# Altium schematic symbol library Connectors.SchLib: 56 symbols (part 1 of 2)
Pins are listed as number, name and electrical type; pins without a type are passive.

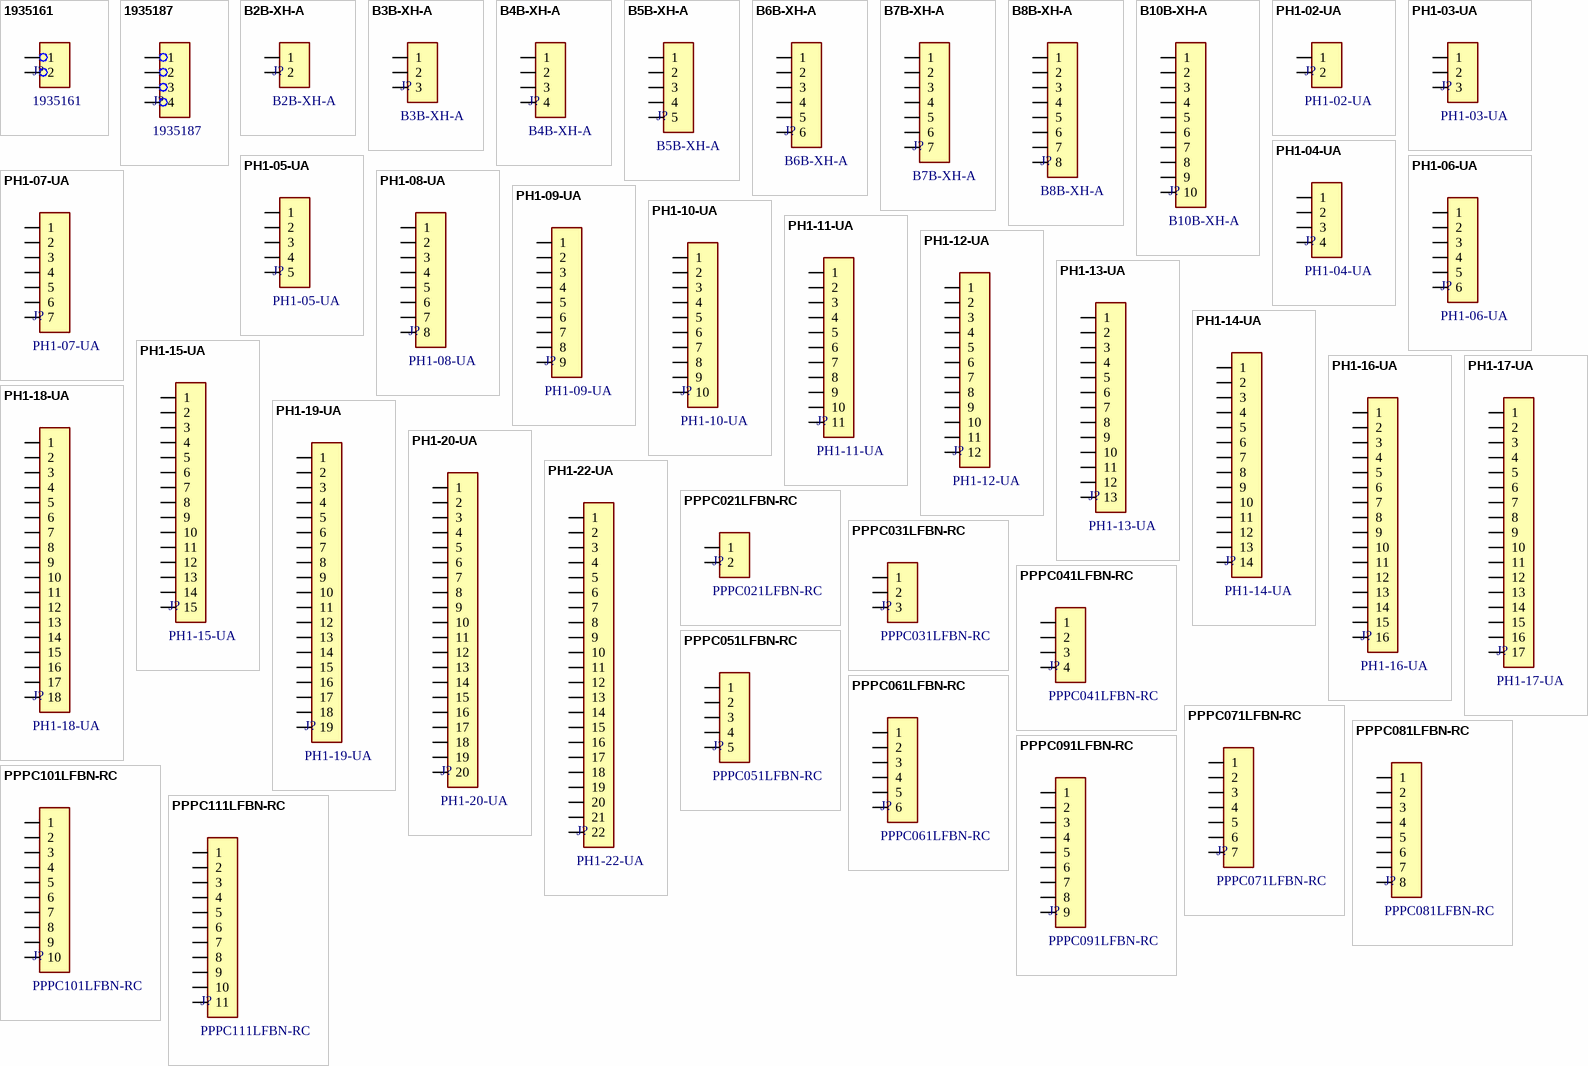
[diagram p0: symbols 1935161 to PPPC111LFBN-RC]

## 1935161
designator J?
TERM BLK 2POS SIDE ENTRY 5MM PCB; Manufacturer: Phoenix Contact; Fastening Method: SCREW; Number of Decks: 1; Number of Ways: 2; Current Rating: 17.5A; Voltage Rating: 250V; Wire Cross Section: 1.5mm2; Wire/Cable Gauge: 14AWG; Safety Approval: UL; Supplier: Digikey; Supplier Part Number: 277-1667-ND; Manufacturer Part Number: 1935161; RoHS: Yes; Category: Terminal Blocks; Stock: 69926; Pricing: 1=0.5, 10=0.476, 50=0.4554, 100=0.443, 250=0.414, 500=0.38088, 1000=0.37375 (USD); Mounting Technology: Board; Terminal and Terminal Block Type: BARRIER STRIP TERMINAL BLOCK; Number of Rows: 1; RoHS Compliant: Yes; Reach SVHC Compliant: No; ComponentLink1URL: https://datasheet.ciiva.com:443/pdfs/VipMasterIC/IC/PCON/PCON-S-A0007661889/PCON-S-A0008048682-1.pdf?src-supplier=IHS+Markit; ComponentLink1Description: https://datasheet.ciiva.com:443/pdfs/VipMasterIC/IC/PCON/PCON-S-A0007661889/PCON-S-A0008048682-1.pdf?src-supplier=IHS+Markit; ComponentLink2URL: https://datasheet.ciiva.com/16047/1935161-16047247.pdf?src-supplier=Onlinecomponents.com; ComponentLink2Description: https://datasheet.ciiva.com/16047/1935161-16047247.pdf?src-supplier=Onlinecomponents.com; ComponentLink3URL: https://datasheet.ciiva.com/15169/getdatasheetpartid-177903-15169663.pdf?src-supplier=Verical; ComponentLink3Description: https://datasheet.ciiva.com/15169/getdatasheetpartid-177903-15169663.pdf?src-supplier=Verical; ComponentLink4URL: https://datasheet.ciiva.com/824/combiconcompact5-0mmseries-824222.pdf?src-supplier=Digikey; ComponentLink4Description: https://datasheet.ciiva.com/824/combiconcompact5-0mmseries-824222.pdf?src-supplier=Digikey
footprint CON_TERM_2P_5MM_PITCH
pins: 1, 2

## 1935187
designator J?
TERM BLK 4POS SIDE ENTRY 5MM PCB; Manufacturer: Phoenix Contact; Number of Contacts: 4; Max Current Rating: 16A; Voltage Rating: 250V; Current Rating: 17.5A; Number of Levels: 1; Current: 18A; Voltage: 300V; Voltage Rating (DC): 508mV; Wire/Cable Gauge: 26AWG; Wire Gauge (Min): 12AWG; Approvals: UL,VDE,CB,EAC; Supplier: Digikey; Supplier Part Number: 277-1579-ND; Manufacturer Part Number: 1935187; RoHS: Yes; Category: Terminal Blocks; Stock: 15505; Pricing: 1=0.98, 10=0.942, 50=0.901, 100=0.8763, 250=0.819, 500=0.75348, 1000=0.73938 (USD); Mounting Technology: Through Hole; Pins: 4; Contact Material: Copper,Tin; Contact Plating: 154ConductorMaterial; Housing Material: Polyamide; Color: Green; Weight: 0.134041oz; Material: Nylon; Housing Color: Green; Insulation Material: Nylon; Termination: Screw; Orientation: Straight; Package Quantity: 250; Packaging: Bulk; Number of Positions: 4; Series: COMBICON PT; Number of Rows: 1; Max Supply Voltage: 250V; Number of Poles: 4; Number of Positions Per Level: 4; Number of Circuits: 4; Number of Ways: 4; Length: 9mm; Width: 20mm; Height: 11.3mm; Wire Gauge (Max): 26AWG; Depth: 9mm; Pitch: 5mm; Stripping Length: 5mm; Radiation Hardening: No; Lead Free: Lead Free; Flammability Rating: UL94 V-0; Reach SVHC Compliant: Unknown; RoHS Compliant: Yes; ComponentLink1URL: https://datasheet.ciiva.com/16047/1935187-16047251.pdf?src-supplier=Onlinecomponents.com; ComponentLink1Description: https://datasheet.ciiva.com/16047/1935187-16047251.pdf?src-supplier=Onlinecomponents.com; ComponentLink2URL: https://datasheet.ciiva.com/823/combiconcompact5-0mmseries-823770.pdf?src-supplier=Digikey; ComponentLink2Description: https://datasheet.ciiva.com/823/combiconcompact5-0mmseries-823770.pdf?src-supplier=Digikey
footprint CON_TERM_4P_5MM_PITCH
pins: 1, 2, 3, 4

## B2B-XH-A
designator J?
CONN HEADER VERT 2POS 2.5MM; Manufacturer: JST; Contact Resistance: 20mΩ; Current Rating: 3A; Insulation Resistance: 1GΩ; Supplier: DigiKey; Supplier Part Number: 455-B2B-XH-A-ND; Manufacturer Part Number: B2B-XH-A; RoHS: Compliant; Category: Card Edge Connectors; Stock: 116847; Pricing: 1=0.1, 10=0.073, 100=0.0618, 500=0.05514, 1000=0.05251, 5000=0.04686, 10000=0.04463 (USD); Contact Gender: Male; Contact Material: Brass; Housing Material: Nylon; Lifecycle Status: Production; Max Operating Temperature: 85°C; Min Operating Temperature: -25°C; Pins: 2; Number of Rows: 1; Orientation: Straight; Terminal Pitch: 2.5mm; ComponentLink1URL: https://datasheet.octopart.com:443/B2B-XH-A-JST-datasheet-157850277.pdf?src-supplier=IHS; ComponentLink1Description: https://datasheet.octopart.com:443/B2B-XH-A-JST-datasheet-157850277.pdf?src-supplier=IHS; ComponentLink2URL: https://datasheet.octopart.com:443/B2B-XH-A-JST-datasheet-10026044.pdf?src-supplier=TME; ComponentLink2Description: https://datasheet.octopart.com:443/B2B-XH-A-JST-datasheet-10026044.pdf?src-supplier=TME
footprint JST-B2B-XH-A
pins: 1, 2

## B3B-XH-A
designator J?
CONN HEADER VERT 3POS 2.5MM; Manufacturer: JST; Contact Resistance: 20mΩ; Current Rating: 3A; Insulation Resistance: 1GΩ; Number of Contacts: 3; Voltage Rating: 250V; Supplier: DigiKey; Supplier Part Number: 455-2248-ND; Manufacturer Part Number: B3B-XH-A; RoHS: Compliant; Category: Card Edge Connectors; Stock: 39227; Pricing: 1=0.11, 10=0.092, 100=0.0777, 500=0.06938, 1000=0.06605, 5000=0.05895, 10000=0.05614 (USD); Contact Gender: Male; Contact Material: Tin; Height: 7mm; Housing Material: Nylon; Lifecycle Status: Production; Max Operating Temperature: 85°C; Min Operating Temperature: -25°C; Pins: 3; Number of Rows: 1; Orientation: Straight; Terminal Pitch: 2.5mm; ComponentLink1URL: https://datasheet.octopart.com:443/B3B-XH-A-JST-datasheet-12510042.pdf?src-supplier=Upverter; ComponentLink1Description: https://datasheet.octopart.com:443/B3B-XH-A-JST-datasheet-12510042.pdf?src-supplier=Upverter; ComponentLink2URL: https://datasheet.octopart.com:443/B3B-XH-A-JST-datasheet-157850277.pdf?src-supplier=IHS; ComponentLink2Description: https://datasheet.octopart.com:443/B3B-XH-A-JST-datasheet-157850277.pdf?src-supplier=IHS; ComponentLink3URL: https://datasheet.octopart.com:443/B3B-XH-A-JST-datasheet-10026044.pdf?src-supplier=TME; ComponentLink3Description: https://datasheet.octopart.com:443/B3B-XH-A-JST-datasheet-10026044.pdf?src-supplier=TME
footprint JST-B3B-XH-A
pins: 1, 2, 3

## B4B-XH-A
designator J?
CONN HEADER VERT 4POS 2.5MM; Manufacturer: JST; Contact Resistance: 20mΩ; Current Rating: 3A; Insulation Resistance: 1GΩ; Supplier: DigiKey; Supplier Part Number: 455-B4B-XH-A-ND; Manufacturer Part Number: B4B-XH-A; RoHS: Compliant; Category: Card Edge Connectors; Stock: 50423; Pricing: 1=0.14, 10=0.12, 100=0.1021, 500=0.09114, 1000=0.08679, 5000=0.07746, 10000=0.07376 (USD); Contact Gender: Male; Contact Material: Bronze, Tin; Housing Material: Nylon; Lifecycle Status: Production; Max Operating Temperature: 85°C; Min Operating Temperature: -25°C; Pins: 4; Number of Rows: 1; Orientation: Straight; Terminal Pitch: 2.5mm; ComponentLink1URL: https://datasheet.octopart.com:443/B4B-XH-A-JST-datasheet-157850277.pdf?src-supplier=IHS; ComponentLink1Description: https://datasheet.octopart.com:443/B4B-XH-A-JST-datasheet-157850277.pdf?src-supplier=IHS; ComponentLink2URL: https://datasheet.octopart.com:443/B4B-XH-A-JST-datasheet-10026044.pdf?src-supplier=TME; ComponentLink2Description: https://datasheet.octopart.com:443/B4B-XH-A-JST-datasheet-10026044.pdf?src-supplier=TME
footprint JST-B4B-XH-A
pins: 1, 2, 3, 4

## B5B-XH-A
designator J?
CONN HEADER VERT 5POS 2.5MM; Manufacturer: JST; Contact Resistance: 20mΩ; Current Rating: 3A; Insulation Resistance: 1GΩ; Supplier: DigiKey; Supplier Part Number: 455-B5B-XH-A-ND; Manufacturer Part Number: B5B-XH-A; RoHS: Compliant; Category: Card Edge Connectors; Stock: 130794; Pricing: 1=0.17, 10=0.144, 100=0.1225, 500=0.10932, 1000=0.10409, 5000=0.0929, 10000=0.08847 (USD); Contact Gender: Male; Contact Material: Bronze, Tin; Housing Material: Nylon; Lifecycle Status: Production; Max Operating Temperature: 85°C; Min Operating Temperature: -25°C; Pins: 5; Number of Rows: 1; Orientation: Straight; Terminal Pitch: 2.5mm; ComponentLink1URL: https://datasheet.octopart.com:443/B5B-XH-A-JST-datasheet-157850277.pdf?src-supplier=IHS; ComponentLink1Description: https://datasheet.octopart.com:443/B5B-XH-A-JST-datasheet-157850277.pdf?src-supplier=IHS; ComponentLink2URL: https://datasheet.octopart.com:443/B5B-XH-A-JST-datasheet-10026044.pdf?src-supplier=TME; ComponentLink2Description: https://datasheet.octopart.com:443/B5B-XH-A-JST-datasheet-10026044.pdf?src-supplier=TME
footprint JST-B5B-XH-A
pins: 1, 2, 3, 4, 5

## B6B-XH-A
designator J?
CONN HEADER VERT 6POS 2.5MM; Manufacturer: JST; Connector Type: Male Pin; Contact Resistance: 20mΩ; Current Rating: 3A; Insulation Resistance: 1GΩ; Number of Contacts: 6; Pitch: 2.4892mm; Voltage Rating: 250V; Supplier: DigiKey; Supplier Part Number: 455-B6B-XH-A-ND; Manufacturer Part Number: B6B-XH-A; RoHS: Compliant; Category: Headers and Wire Housings; Stock: 26613; Pricing: 1=0.2, 10=0.166, 100=0.141, 500=0.12586, 1000=0.11985, 5000=0.10697, 10000=0.10187 (USD); Color: Natural; Contact Gender: Male; Contact Material: Copper, Tin; Contact Plating: Lead, Tin; Fastening Type: Detent; Height: 7mm; Housing Color: Natural; Housing Material: Nylon; Lead Free: Contains Lead; Lifecycle Status: Production; Max Operating Temperature: 85°C; Manufacturer Package Identifier: B6B-XH-A; Min Operating Temperature: -25°C; Mounting Technology: Through Hole; Pins: 6; Number of Positions: 6; Number of Rows: 1; Orientation: Straight; Packaging: Bulk; Terminal Pitch: 2.5mm; Termination: Press-Fit; ComponentLink1URL: https://datasheet.octopart.com:443/B6B-XH-A-JST-datasheet-13551090.pdf?src-supplier=Upverter; ComponentLink1Description: https://datasheet.octopart.com:443/B6B-XH-A-JST-datasheet-13551090.pdf?src-supplier=Upverter; ComponentLink2URL: https://datasheet.octopart.com:443/B6B-XH-A-JST-datasheet-12516791.pdf?src-supplier=Upverter; ComponentLink2Description: https://datasheet.octopart.com:443/B6B-XH-A-JST-datasheet-12516791.pdf?src-supplier=Upverter; ComponentLink3URL: https://datasheet.octopart.com:443/B6B-XH-A-JST-datasheet-157850277.pdf?src-supplier=IHS; ComponentLink3Description: https://datasheet.octopart.com:443/B6B-XH-A-JST-datasheet-157850277.pdf?src-supplier=IHS; ComponentLink4URL: https://datasheet.octopart.com:443/B6B-XH-A-JST-datasheet-140264791.pdf?src-supplier=LKR; ComponentLink4Description: https://datasheet.octopart.com:443/B6B-XH-A-JST-datasheet-140264791.pdf?src-supplier=LKR; ComponentLink5URL: https://datasheet.octopart.com:443/B6B-XH-A-JST-datasheet-10026044.pdf?src-supplier=TME; ComponentLink5Description: https://datasheet.octopart.com:443/B6B-XH-A-JST-datasheet-10026044.pdf?src-supplier=TME
footprint JST-B6B-XH-A
pins: 1, 2, 3, 4, 5, 6

## B7B-XH-A
designator J?
CONN HEADER VERT 7POS 2.5MM; Manufacturer: JST; Contact Resistance: 20mΩ; Current Rating: 3A; Insulation Resistance: 1GΩ; Supplier: DigiKey; Supplier Part Number: 455-B7B-XH-A-ND; Manufacturer Part Number: B7B-XH-A; RoHS: Compliant; Category: Card Edge Connectors; Stock: 129225; Pricing: 1=0.23, 10=0.195, 100=0.1657, 500=0.14788, 1000=0.14081, 5000=0.12568, 10000=0.11968 (USD); Contact Gender: Male; Contact Material: Bronze, Tin; Housing Material: Nylon; Lead Free: Contains Lead; Lifecycle Status: Production; Max Operating Temperature: 85°C; Min Operating Temperature: -25°C; Pins: 7; Number of Rows: 1; Orientation: Straight; Terminal Pitch: 2.5mm; ComponentLink1URL: https://datasheet.octopart.com:443/B7B-XH-A-JST-datasheet-157850277.pdf?src-supplier=IHS; ComponentLink1Description: https://datasheet.octopart.com:443/B7B-XH-A-JST-datasheet-157850277.pdf?src-supplier=IHS; ComponentLink2URL: https://datasheet.octopart.com:443/B7B-XH-A-JST-datasheet-10026044.pdf?src-supplier=TME; ComponentLink2Description: https://datasheet.octopart.com:443/B7B-XH-A-JST-datasheet-10026044.pdf?src-supplier=TME
footprint JST-B7B-XH-A
pins: 1, 2, 3, 4, 5, 6, 7

## B8B-XH-A
designator J?
CONN HEADER VERT 8POS 2.5MM; Manufacturer: JST; Contact Resistance: 20mΩ; Current Rating: 3A; Insulation Resistance: 1GΩ; Supplier: DigiKey; Supplier Part Number: 455-B8B-XH-A-ND; Manufacturer Part Number: B8B-XH-A; RoHS: Compliant; Category: Card Edge Connectors; Stock: 5417; Pricing: 1=0.25, 10=0.214, 250=0.1704, 500=0.16226, 1000=0.1545, 5000=0.1379, 10000=0.13132 (USD); Contact Gender: Male; Contact Material: Bronze, Tin; Housing Material: Nylon; Lifecycle Status: Production; Max Operating Temperature: 85°C; Min Operating Temperature: -25°C; Pins: 8; Number of Rows: 1; Orientation: Straight; Terminal Pitch: 2.5mm; ComponentLink1URL: https://datasheet.octopart.com:443/B8B-XH-A-JST-datasheet-157850277.pdf?src-supplier=IHS; ComponentLink1Description: https://datasheet.octopart.com:443/B8B-XH-A-JST-datasheet-157850277.pdf?src-supplier=IHS; ComponentLink2URL: https://datasheet.octopart.com:443/B8B-XH-A-JST-datasheet-10026044.pdf?src-supplier=TME; ComponentLink2Description: https://datasheet.octopart.com:443/B8B-XH-A-JST-datasheet-10026044.pdf?src-supplier=TME
footprint JST-B8B-XH-A
pins: 1, 2, 3, 4, 5, 6, 7, 8

## B10B-XH-A
designator J?
CONN HEADER VERT 10POS 2.5MM; Manufacturer: JST; Contact Resistance: 20mΩ; Current Rating: 3A; Insulation Resistance: 1GΩ; Supplier: DigiKey; Supplier Part Number: 455-B10B-XH-A-ND; Manufacturer Part Number: B10B-XH-A; RoHS: Compliant; Category: Card Edge Connectors; Stock: 6118; Pricing: 1=0.32, 10=0.273, 250=0.2172, 500=0.2068, 1000=0.19692, 5000=0.17577, 10000=0.16738 (USD); Contact Gender: Male; Contact Material: Bronze, Tin; Housing Material: Nylon; Lifecycle Status: Production; Max Operating Temperature: 85°C; Min Operating Temperature: -25°C; Pins: 10; Number of Rows: 1; Orientation: Straight; Terminal Pitch: 2.5mm; ComponentLink1URL: https://datasheet.octopart.com:443/B10B-XH-A-JST-datasheet-157850277.pdf?src-supplier=IHS; ComponentLink1Description: https://datasheet.octopart.com:443/B10B-XH-A-JST-datasheet-157850277.pdf?src-supplier=IHS
footprint JST-B10B-XH-A
pins: 1, 2, 3, 4, 5, 6, 7, 8, 9, 10

## PH1-02-UA
designator J?
CONN HEADER VERT 2POS 2.54MM; Manufacturer: Adam Equipment; Supplier: Digikey; Supplier Part Number: 2057-PH1-02-UA-ND; Manufacturer Part Number: PH1-02-UA; RoHS: Yes; Category: Connectors; Stock: 110214; Pricing: 1=0.1, 10=0.032, 100=0.0244, 500=0.02018, 1000=0.01863, 5000=0.01554, 10000=0.0144 (USD); ComponentLink1URL: https://datasheet.ciiva.com/16392/ph1-xx-ua-16392701.pdf?src-supplier=Future+Electronics; ComponentLink1Description: https://datasheet.ciiva.com/16392/ph1-xx-ua-16392701.pdf?src-supplier=Future+Electronics; ComponentLink2URL: https://datasheet.ciiva.com/5160/page-292-295-12946-5160830.pdf?src-supplier=Mouser; ComponentLink2Description: https://datasheet.ciiva.com/5160/page-292-295-12946-5160830.pdf?src-supplier=Mouser
footprint CON_HDR_MAL_VERT_2P_2P54_PITCH
pins: 1, 2

## PH1-03-UA
designator J?
CONN HEADER VERT 3POS 2.54MM; Manufacturer: Adam Equipment; Supplier: Digikey; Supplier Part Number: 2057-PH1-03-UA-ND; Manufacturer Part Number: PH1-03-UA; RoHS: Yes; Category: Headers and Wire Housings; Stock: 33737; Pricing: 1=0.1, 10=0.037, 100=0.0311, 500=0.02772, 1000=0.0264, 5000=0.02356, 10000=0.02243 (USD); ComponentLink1URL: https://datasheet.ciiva.com/16396/catpg240-254-16396026.pdf?src-supplier=Future+Electronics; ComponentLink1Description: https://datasheet.ciiva.com/16396/catpg240-254-16396026.pdf?src-supplier=Future+Electronics
footprint CON_HDR_MAL_VERT_3P_2P54_PITCH
pins: 1, 2, 3

## PH1-04-UA
designator J?
CONN HEADER VERT 4POS 2.54MM; Manufacturer: Adam Tech; Contact Resistance: 20mΩ; Current Rating: 3A; Insulation Resistance: 5GΩ; Number of Positions: 4; Supplier: DigiKey; Supplier Part Number: 2057-PH1-04-UA-ND; Manufacturer Part Number: PH1-04-UA; RoHS: Compliant; Category: Card Edge Connectors; Stock: 26184; Pricing: 1=0.1, 10=0.05, 100=0.0424, 500=0.03784, 1000=0.03602, 5000=0.03215, 10000=0.03061 (USD); Contact Gender: Male; Contact Material: Brass; Lead Free: Lead Free; Lifecycle Status: Production; Pins: 4; Number of Rows: 1; Pitch: 2.54mm; REACH SVHC: Yes; Terminal Pitch: 2.54mm; Termination: Through Hole; ComponentLink1URL: https://datasheet.octopart.com:443/PH1-04-UA-Adam-Tech-datasheet-21182886.pdf?src-supplier=IHS; ComponentLink1Description: https://datasheet.octopart.com:443/PH1-04-UA-Adam-Tech-datasheet-21182886.pdf?src-supplier=IHS; ComponentLink2URL: https://datasheet.octopart.com:443/PH1-04-UA-Adam-Tech-datasheet-12339966.pdf?src-supplier=Future+Electronics; ComponentLink2Description: https://datasheet.octopart.com:443/PH1-04-UA-Adam-Tech-datasheet-12339966.pdf?src-supplier=Future+Electronics; ComponentLink3URL: https://datasheet.octopart.com:443/PH1-04-UA-Adam-Tech-datasheet-502038.pdf?src-supplier=Future+Electronics; ComponentLink3Description: https://datasheet.octopart.com:443/PH1-04-UA-Adam-Tech-datasheet-502038.pdf?src-supplier=Future+Electronics; ComponentLink4URL: https://datasheet.octopart.com:443/PH1-04-UA-Adam-Tech-datasheet-189096092.pdf?src-supplier=Master+Electronics; ComponentLink4Description: https://datasheet.octopart.com:443/PH1-04-UA-Adam-Tech-datasheet-189096092.pdf?src-supplier=Master+Electronics; ComponentLink5URL: http://sigma.octopart.com:80/reach_statement/Adam-Tech-company-23.pdf?src-supplier=Compliance+Statements; ComponentLink5Description: http://sigma.octopart.com:80/reach_statement/Adam-Tech-company-23.pdf?src-supplier=Compliance+Statements; ComponentLink6URL: http://sigma.octopart.com:80/rohs_statement/Adam-Tech-company-22.pdf?src-supplier=Compliance+Statements; ComponentLink6Description: http://sigma.octopart.com:80/rohs_statement/Adam-Tech-company-22.pdf?src-supplier=Compliance+Statements
footprint CON_HDR_MAL_VERT_4P_2P54_PITCH
pins: 1, 2, 3, 4

## PH1-05-UA
designator J?
CONN HEADER VERT 5POS 2.54MM; Manufacturer: Adam Tech; Contact Resistance: 20mΩ; Current Rating: 3A; Insulation Resistance: 5GΩ; Number of Positions: 5; Supplier: DigiKey; Supplier Part Number: 2057-PH1-05-UA-ND; Manufacturer Part Number: PH1-05-UA; RoHS: Compliant; Category: Card Edge Connectors; Stock: 16358; Pricing: 1=0.1, 10=0.071, 100=0.0603, 500=0.05382, 1000=0.05125, 5000=0.04574, 10000=0.04355 (USD); Contact Gender: Male; Contact Material: Brass; Lead Free: Lead Free; Lifecycle Status: Production; Mounting Technology: Through Hole; Pins: 5; Number of Rows: 1; Pitch: 2.54mm; REACH SVHC: Yes; Schedule B: 8536694040, 8536694040|8536694040|8536694040|8536694040|8536694040; Terminal Pitch: 2.54mm; ComponentLink1URL: https://datasheet.octopart.com:443/PH1-05-UA-Adam-Tech-datasheet-21182886.pdf?src-supplier=IHS; ComponentLink1Description: https://datasheet.octopart.com:443/PH1-05-UA-Adam-Tech-datasheet-21182886.pdf?src-supplier=IHS; ComponentLink2URL: https://datasheet.octopart.com:443/PH1-05-UA-Adam-Tech-datasheet-500427.pdf?src-supplier=Future+Electronics; ComponentLink2Description: https://datasheet.octopart.com:443/PH1-05-UA-Adam-Tech-datasheet-500427.pdf?src-supplier=Future+Electronics; ComponentLink3URL: https://datasheet.octopart.com:443/PH1-05-UA-Adam-Tech-datasheet-189096092.pdf?src-supplier=Master+Electronics; ComponentLink3Description: https://datasheet.octopart.com:443/PH1-05-UA-Adam-Tech-datasheet-189096092.pdf?src-supplier=Master+Electronics; ComponentLink4URL: http://sigma.octopart.com:80/rohs_statement/Adam-Tech-company-22.pdf?src-supplier=Compliance+Statements; ComponentLink4Description: http://sigma.octopart.com:80/rohs_statement/Adam-Tech-company-22.pdf?src-supplier=Compliance+Statements; ComponentLink5URL: http://sigma.octopart.com:80/reach_statement/Adam-Tech-company-23.pdf?src-supplier=Compliance+Statements; ComponentLink5Description: http://sigma.octopart.com:80/reach_statement/Adam-Tech-company-23.pdf?src-supplier=Compliance+Statements
footprint CON_HDR_MAL_VERT_5P_2P54_PITCH
pins: 1, 2, 3, 4, 5

## PH1-06-UA
designator J?
CONN HEADER VERT 6POS 2.54MM; Manufacturer: Adam Tech; Contact Resistance: 20mΩ; Current Rating: 3A; Insulation Resistance: 5GΩ; Number of Contacts: 6; Supplier: DigiKey; Supplier Part Number: 2057-PH1-06-UA-ND; Manufacturer Part Number: PH1-06-UA; RoHS: Compliant; Category: Card Edge Connectors; Stock: 7020; Pricing: 1=0.1, 10=0.071, 100=0.0603, 500=0.05382, 1000=0.05125, 5000=0.04574, 10000=0.04355 (USD); Contact Gender: Male; Contact Material: Brass; Contact Plating: Gold; Lead Free: Lead Free; Lifecycle Status: Production; Mounting Technology: Through Hole; Pins: 6; Number of Positions: 6; Number of Rows: 1; Pitch: 2.54mm; REACH SVHC: Yes; Terminal Pitch: 2.54mm; ComponentLink1URL: https://datasheet.octopart.com:443/PH1-06-UA-Adam-Tech-datasheet-21182886.pdf?src-supplier=IHS; ComponentLink1Description: https://datasheet.octopart.com:443/PH1-06-UA-Adam-Tech-datasheet-21182886.pdf?src-supplier=IHS; ComponentLink2URL: https://datasheet.octopart.com:443/PH1-06-UA-Adam-Tech-datasheet-12510360.pdf?src-supplier=Future+Electronics; ComponentLink2Description: https://datasheet.octopart.com:443/PH1-06-UA-Adam-Tech-datasheet-12510360.pdf?src-supplier=Future+Electronics; ComponentLink3URL: https://datasheet.octopart.com:443/PH1-06-UA-Adam-Tech-datasheet-502038.pdf?src-supplier=Future+Electronics; ComponentLink3Description: https://datasheet.octopart.com:443/PH1-06-UA-Adam-Tech-datasheet-502038.pdf?src-supplier=Future+Electronics; ComponentLink4URL: https://datasheet.octopart.com:443/PH1-06-UA-Adam-Tech-datasheet-189096092.pdf?src-supplier=Master+Electronics; ComponentLink4Description: https://datasheet.octopart.com:443/PH1-06-UA-Adam-Tech-datasheet-189096092.pdf?src-supplier=Master+Electronics; ComponentLink5URL: http://sigma.octopart.com:80/reach_statement/Adam-Tech-company-23.pdf?src-supplier=Compliance+Statements; ComponentLink5Description: http://sigma.octopart.com:80/reach_statement/Adam-Tech-company-23.pdf?src-supplier=Compliance+Statements; ComponentLink6URL: http://sigma.octopart.com:80/rohs_statement/Adam-Tech-company-22.pdf?src-supplier=Compliance+Statements; ComponentLink6Description: http://sigma.octopart.com:80/rohs_statement/Adam-Tech-company-22.pdf?src-supplier=Compliance+Statements
footprint CON_HDR_MAL_VERT_6P_2P54_PITCH
pins: 1, 2, 3, 4, 5, 6

## PH1-07-UA
designator J?
CONN HEADER VERT 7POS 2.54MM; Manufacturer: Adam Tech; Contact Resistance: 20mΩ; Current Rating: 3A; Insulation Resistance: 5GΩ; Number of Contacts: 7; Supplier: DigiKey; Supplier Part Number: 2057-PH1-07-UA-ND; Manufacturer Part Number: PH1-07-UA; RoHS: Compliant; Category: Card Edge Connectors; Stock: 22626; Pricing: 1=0.1, 10=0.085, 100=0.0719, 500=0.06416, 1000=0.0611, 5000=0.05453, 10000=0.05192 (USD); Contact Gender: Male; Contact Material: Brass; Contact Plating: Gold; Lead Free: Lead Free; Lifecycle Status: Production; Pins: 7; Number of Rows: 1; REACH SVHC: Yes; Schedule B: 8536694040; Terminal Pitch: 2.54mm; ComponentLink1URL: https://datasheet.octopart.com:443/PH1-07-UA-Adam-Tech-datasheet-21182886.pdf?src-supplier=IHS; ComponentLink1Description: https://datasheet.octopart.com:443/PH1-07-UA-Adam-Tech-datasheet-21182886.pdf?src-supplier=IHS; ComponentLink2URL: https://datasheet.octopart.com:443/PH1-07-UA-Adam-Tech-datasheet-502038.pdf?src-supplier=Future+Electronics; ComponentLink2Description: https://datasheet.octopart.com:443/PH1-07-UA-Adam-Tech-datasheet-502038.pdf?src-supplier=Future+Electronics; ComponentLink3URL: https://datasheet.octopart.com:443/PH1-07-UA-Adam-Tech-datasheet-189096092.pdf?src-supplier=Master+Electronics; ComponentLink3Description: https://datasheet.octopart.com:443/PH1-07-UA-Adam-Tech-datasheet-189096092.pdf?src-supplier=Master+Electronics; ComponentLink4URL: http://sigma.octopart.com:80/reach_statement/Adam-Tech-company-23.pdf?src-supplier=Compliance+Statements; ComponentLink4Description: http://sigma.octopart.com:80/reach_statement/Adam-Tech-company-23.pdf?src-supplier=Compliance+Statements; ComponentLink5URL: http://sigma.octopart.com:80/rohs_statement/Adam-Tech-company-22.pdf?src-supplier=Compliance+Statements; ComponentLink5Description: http://sigma.octopart.com:80/rohs_statement/Adam-Tech-company-22.pdf?src-supplier=Compliance+Statements
footprint CON_HDR_MAL_VERT_7P_2P54_PITCH
pins: 1, 2, 3, 4, 5, 6, 7

## PH1-08-UA
designator J?
CONN HEADER VERT 8POS 2.54MM; Manufacturer: Adam Tech; Contact Resistance: 20mΩ; Current Rating: 3A; Insulation Resistance: 5GΩ; Supplier: DigiKey; Supplier Part Number: 2057-PH1-08-UA-ND; Manufacturer Part Number: PH1-08-UA; RoHS: Compliant; Category: Card Edge Connectors; Stock: 3045; Pricing: 1=0.11, 10=0.097, 100=0.0823, 500=0.0734, 1000=0.06989, 5000=0.06237, 10000=0.05939 (USD); Contact Gender: Male; Contact Material: Brass; Lifecycle Status: Production; Pins: 8; Number of Rows: 1; REACH SVHC: Yes; Schedule B: 8536694040, 8536694040|8536694040|8536694040|8536694040|8536694040; Terminal Pitch: 2.54mm; ComponentLink1URL: https://datasheet.octopart.com:443/PH1-08-UA-Adam-Tech-datasheet-21182886.pdf?src-supplier=IHS; ComponentLink1Description: https://datasheet.octopart.com:443/PH1-08-UA-Adam-Tech-datasheet-21182886.pdf?src-supplier=IHS; ComponentLink2URL: https://datasheet.octopart.com:443/PH1-08-UA-Adam-Tech-datasheet-189096092.pdf?src-supplier=Master+Electronics; ComponentLink2Description: https://datasheet.octopart.com:443/PH1-08-UA-Adam-Tech-datasheet-189096092.pdf?src-supplier=Master+Electronics; ComponentLink3URL: http://sigma.octopart.com:80/reach_statement/Adam-Tech-company-23.pdf?src-supplier=Compliance+Statements; ComponentLink3Description: http://sigma.octopart.com:80/reach_statement/Adam-Tech-company-23.pdf?src-supplier=Compliance+Statements; ComponentLink4URL: http://sigma.octopart.com:80/rohs_statement/Adam-Tech-company-22.pdf?src-supplier=Compliance+Statements; ComponentLink4Description: http://sigma.octopart.com:80/rohs_statement/Adam-Tech-company-22.pdf?src-supplier=Compliance+Statements
footprint CON_HDR_MAL_VERT_8P_2P54_PITCH
pins: 1, 2, 3, 4, 5, 6, 7, 8

## PH1-09-UA
designator J?
CONN HEADER VERT 9POS 2.54MM; Manufacturer: Adam Tech; Contact Resistance: 20mΩ; Current Rating: 3A; Insulation Resistance: 5GΩ; Supplier: DigiKey; Supplier Part Number: 2057-PH1-09-UA-ND; Manufacturer Part Number: PH1-09-UA; RoHS: Compliant; Category: Card Edge Connectors; Stock: 11695; Pricing: 1=0.17, 10=0.144, 100=0.1221, 500=0.109, 1000=0.10379, 5000=0.09264, 10000=0.08821 (USD); Contact Gender: Male; Contact Material: Brass; Lifecycle Status: Production; Pins: 9; Number of Rows: 1; REACH SVHC: Yes; Schedule B: 8536694040, 8536694040|8536694040|8536694040|8536694040|8536694040; Terminal Pitch: 2.54mm; ComponentLink1URL: https://datasheet.octopart.com:443/PH1-09-UA-Adam-Tech-datasheet-21182886.pdf?src-supplier=IHS; ComponentLink1Description: https://datasheet.octopart.com:443/PH1-09-UA-Adam-Tech-datasheet-21182886.pdf?src-supplier=IHS; ComponentLink2URL: https://datasheet.octopart.com:443/PH1-09-UA-Adam-Tech-datasheet-189096092.pdf?src-supplier=Master+Electronics; ComponentLink2Description: https://datasheet.octopart.com:443/PH1-09-UA-Adam-Tech-datasheet-189096092.pdf?src-supplier=Master+Electronics; ComponentLink3URL: http://sigma.octopart.com:80/reach_statement/Adam-Tech-company-23.pdf?src-supplier=Compliance+Statements; ComponentLink3Description: http://sigma.octopart.com:80/reach_statement/Adam-Tech-company-23.pdf?src-supplier=Compliance+Statements; ComponentLink4URL: http://sigma.octopart.com:80/rohs_statement/Adam-Tech-company-22.pdf?src-supplier=Compliance+Statements; ComponentLink4Description: http://sigma.octopart.com:80/rohs_statement/Adam-Tech-company-22.pdf?src-supplier=Compliance+Statements
footprint CON_HDR_MAL_VERT_9P_2P54_PITCH
pins: 1, 2, 3, 4, 5, 6, 7, 8, 9

## PH1-10-UA
designator J?
CONN HEADER VERT 10POS 2.54MM; Manufacturer: Adam Equipment; Supplier: Digikey; Supplier Part Number: 2057-PH1-10-UA-ND; Manufacturer Part Number: PH1-10-UA; RoHS: Yes; Category: Connectors; Stock: 12245; Pricing: 1=0.13, 10=0.114, 100=0.0969, 500=0.08648, 1000=0.08235, 5000=0.07349, 10000=0.06999 (USD); ComponentLink1URL: https://datasheet.ciiva.com/13676/page-292-295-13676646.pdf?src-supplier=Mouser; ComponentLink1Description: https://datasheet.ciiva.com/13676/page-292-295-13676646.pdf?src-supplier=Mouser
footprint CON_HDR_MAL_VERT_10P_2P54_PITCH
pins: 1, 2, 3, 4, 5, 6, 7, 8, 9, 10

## PH1-11-UA
designator J?
CONN HEADER VERT 11POS 2.54MM; Manufacturer: Adam Tech; Contact Resistance: 20mΩ; Current Rating: 3A; Insulation Resistance: 5GΩ; Supplier: DigiKey; Supplier Part Number: 2057-PH1-11-UA-ND; Manufacturer Part Number: PH1-11-UA; RoHS: Compliant; Category: Card Edge Connectors; Stock: 2051; Pricing: 1=0.14, 10=0.122, 100=0.1032, 500=0.09212, 1000=0.08771, 5000=0.07828, 10000=0.07454 (USD); Contact Gender: Male; Contact Material: Brass; Lifecycle Status: Production; Pins: 11; Number of Rows: 1; REACH SVHC: Yes; Schedule B: 8536694040; Terminal Pitch: 2.54mm; ComponentLink1URL: https://datasheet.octopart.com:443/PH1-11-UA-Adam-Tech-datasheet-21182886.pdf?src-supplier=IHS; ComponentLink1Description: https://datasheet.octopart.com:443/PH1-11-UA-Adam-Tech-datasheet-21182886.pdf?src-supplier=IHS; ComponentLink2URL: https://datasheet.octopart.com:443/PH1-11-UA-Adam-Tech-datasheet-189096092.pdf?src-supplier=Master+Electronics; ComponentLink2Description: https://datasheet.octopart.com:443/PH1-11-UA-Adam-Tech-datasheet-189096092.pdf?src-supplier=Master+Electronics; ComponentLink3URL: http://sigma.octopart.com:80/rohs_statement/Adam-Tech-company-22.pdf?src-supplier=Compliance+Statements; ComponentLink3Description: http://sigma.octopart.com:80/rohs_statement/Adam-Tech-company-22.pdf?src-supplier=Compliance+Statements; ComponentLink4URL: http://sigma.octopart.com:80/reach_statement/Adam-Tech-company-23.pdf?src-supplier=Compliance+Statements; ComponentLink4Description: http://sigma.octopart.com:80/reach_statement/Adam-Tech-company-23.pdf?src-supplier=Compliance+Statements
footprint CON_HDR_MAL_VERT_11P_2P54_PITCH
pins: 1, 2, 3, 4, 5, 6, 7, 8, 9, 10, 11

## PH1-12-UA
designator J?
CONN HEADER VERT 12POS 2.54MM; Manufacturer: Adam Tech; Contact Resistance: 20mΩ; Current Rating: 3A; Insulation Resistance: 5GΩ; Supplier: DigiKey; Supplier Part Number: 2057-PH1-12-UA-ND; Manufacturer Part Number: PH1-12-UA; RoHS: Compliant; Category: Card Edge Connectors; Stock: 4637; Pricing: 1=0.16, 10=0.134, 100=0.1137, 500=0.10142, 1000=0.09658, 5000=0.0862, 10000=0.08208 (USD); Contact Gender: Male; Contact Material: Brass; Lead Free: Lead Free; Lifecycle Status: Production; Pins: 12; Number of Rows: 1; REACH SVHC: Yes; Terminal Pitch: 2.54mm; ComponentLink1URL: https://datasheet.octopart.com:443/PH1-12-UA-Adam-Tech-datasheet-21182886.pdf?src-supplier=IHS; ComponentLink1Description: https://datasheet.octopart.com:443/PH1-12-UA-Adam-Tech-datasheet-21182886.pdf?src-supplier=IHS; ComponentLink2URL: https://datasheet.octopart.com:443/PH1-12-UA-Adam-Tech-datasheet-12510360.pdf?src-supplier=Future+Electronics; ComponentLink2Description: https://datasheet.octopart.com:443/PH1-12-UA-Adam-Tech-datasheet-12510360.pdf?src-supplier=Future+Electronics; ComponentLink3URL: https://datasheet.octopart.com:443/PH1-12-UA-Adam-Tech-datasheet-189096092.pdf?src-supplier=Master+Electronics; ComponentLink3Description: https://datasheet.octopart.com:443/PH1-12-UA-Adam-Tech-datasheet-189096092.pdf?src-supplier=Master+Electronics; ComponentLink4URL: http://sigma.octopart.com:80/reach_statement/Adam-Tech-company-23.pdf?src-supplier=Compliance+Statements; ComponentLink4Description: http://sigma.octopart.com:80/reach_statement/Adam-Tech-company-23.pdf?src-supplier=Compliance+Statements; ComponentLink5URL: http://sigma.octopart.com:80/rohs_statement/Adam-Tech-company-22.pdf?src-supplier=Compliance+Statements; ComponentLink5Description: http://sigma.octopart.com:80/rohs_statement/Adam-Tech-company-22.pdf?src-supplier=Compliance+Statements
footprint CON_HDR_MAL_VERT_12P_2P54_PITCH
pins: 1, 2, 3, 4, 5, 6, 7, 8, 9, 10, 11, 12

## PH1-13-UA
designator J?
CONN HEADER VERT 13POS 2.54MM; Manufacturer: Adam Tech; Contact Resistance: 20mΩ; Current Rating: 3A; Insulation Resistance: 5GΩ; Supplier: DigiKey; Supplier Part Number: 2057-PH1-13-UA-ND; Manufacturer Part Number: PH1-13-UA; RoHS: Compliant; Category: Card Edge Connectors; Stock: 2521; Pricing: 1=0.17, 10=0.146, 100=0.124, 500=0.11066, 1000=0.10537, 5000=0.09404, 10000=0.08955 (USD); Contact Gender: Male; Contact Material: Brass; Lifecycle Status: Production; Pins: 13; Number of Rows: 1; REACH SVHC: Yes; Schedule B: 8536694040; Terminal Pitch: 2.54mm; ComponentLink1URL: https://datasheet.octopart.com:443/PH1-13-UA-Adam-Tech-datasheet-21182886.pdf?src-supplier=IHS; ComponentLink1Description: https://datasheet.octopart.com:443/PH1-13-UA-Adam-Tech-datasheet-21182886.pdf?src-supplier=IHS; ComponentLink2URL: https://datasheet.octopart.com:443/PH1-13-UA-Adam-Tech-datasheet-189096092.pdf?src-supplier=Master+Electronics; ComponentLink2Description: https://datasheet.octopart.com:443/PH1-13-UA-Adam-Tech-datasheet-189096092.pdf?src-supplier=Master+Electronics; ComponentLink3URL: http://sigma.octopart.com:80/reach_statement/Adam-Tech-company-23.pdf?src-supplier=Compliance+Statements; ComponentLink3Description: http://sigma.octopart.com:80/reach_statement/Adam-Tech-company-23.pdf?src-supplier=Compliance+Statements; ComponentLink4URL: http://sigma.octopart.com:80/rohs_statement/Adam-Tech-company-22.pdf?src-supplier=Compliance+Statements; ComponentLink4Description: http://sigma.octopart.com:80/rohs_statement/Adam-Tech-company-22.pdf?src-supplier=Compliance+Statements
footprint CON_HDR_MAL_VERT_13P_2P54_PITCH
pins: 1, 2, 3, 4, 5, 6, 7, 8, 9, 10, 11, 12, 13

## PH1-14-UA
designator J?
CONN HEADER VERT 14POS 2.54MM; Manufacturer: Adam Tech; Contact Resistance: 20mΩ; Current Rating: 3A; Insulation Resistance: 5GΩ; Supplier: DigiKey; Supplier Part Number: 2057-PH1-14-UA-ND; Manufacturer Part Number: PH1-14-UA; RoHS: Compliant; Category: Card Edge Connectors; Stock: 7936; Pricing: 1=0.19, 10=0.158, 100=0.1345, 500=0.12, 1000=0.11426, 5000=0.10199, 10000=0.09712 (USD); Contact Gender: Male; Contact Material: Brass; Lead Free: Lead Free; Lifecycle Status: Production; Pins: 14; Number of Rows: 1; REACH SVHC: Yes; Terminal Pitch: 2.54mm; ComponentLink1URL: https://datasheet.octopart.com:443/PH1-14-UA-Adam-Tech-datasheet-21182886.pdf?src-supplier=IHS; ComponentLink1Description: https://datasheet.octopart.com:443/PH1-14-UA-Adam-Tech-datasheet-21182886.pdf?src-supplier=IHS; ComponentLink2URL: https://datasheet.octopart.com:443/PH1-14-UA-Adam-Tech-datasheet-500427.pdf?src-supplier=Future+Electronics; ComponentLink2Description: https://datasheet.octopart.com:443/PH1-14-UA-Adam-Tech-datasheet-500427.pdf?src-supplier=Future+Electronics; ComponentLink3URL: https://datasheet.octopart.com:443/PH1-14-UA-Adam-Tech-datasheet-189096092.pdf?src-supplier=Master+Electronics; ComponentLink3Description: https://datasheet.octopart.com:443/PH1-14-UA-Adam-Tech-datasheet-189096092.pdf?src-supplier=Master+Electronics; ComponentLink4URL: http://sigma.octopart.com:80/reach_statement/Adam-Tech-company-23.pdf?src-supplier=Compliance+Statements; ComponentLink4Description: http://sigma.octopart.com:80/reach_statement/Adam-Tech-company-23.pdf?src-supplier=Compliance+Statements; ComponentLink5URL: http://sigma.octopart.com:80/rohs_statement/Adam-Tech-company-22.pdf?src-supplier=Compliance+Statements; ComponentLink5Description: http://sigma.octopart.com:80/rohs_statement/Adam-Tech-company-22.pdf?src-supplier=Compliance+Statements
footprint CON_HDR_MAL_VERT_14P_2P54_PITCH
pins: 1, 2, 3, 4, 5, 6, 7, 8, 9, 10, 11, 12, 13, 14

## PH1-15-UA
designator J?
CONN HEADER VERT 15POS 2.54MM; Manufacturer: Adam Tech; Contact Resistance: 20mΩ; Current Rating: 3A; Insulation Resistance: 5GΩ; Supplier: DigiKey; Supplier Part Number: 2057-PH1-15-UA-ND; Manufacturer Part Number: PH1-15-UA; RoHS: Compliant; Category: Card Edge Connectors; Stock: 5885; Pricing: 1=0.2, 10=0.17, 100=0.1445, 500=0.12892, 1000=0.12275, 5000=0.10956, 10000=0.10433 (USD); Contact Gender: Male; Contact Material: Brass; Lifecycle Status: Production; Pins: 15; Number of Rows: 1; REACH SVHC: Yes; Schedule B: 8536694040, 8536694040|8536694040|8536694040|8536694040|8536694040; Terminal Pitch: 2.54mm; ComponentLink1URL: https://datasheet.octopart.com:443/PH1-15-UA-Adam-Tech-datasheet-21182886.pdf?src-supplier=IHS; ComponentLink1Description: https://datasheet.octopart.com:443/PH1-15-UA-Adam-Tech-datasheet-21182886.pdf?src-supplier=IHS; ComponentLink2URL: https://datasheet.octopart.com:443/PH1-15-UA-Adam-Tech-datasheet-189096092.pdf?src-supplier=Master+Electronics; ComponentLink2Description: https://datasheet.octopart.com:443/PH1-15-UA-Adam-Tech-datasheet-189096092.pdf?src-supplier=Master+Electronics; ComponentLink3URL: http://sigma.octopart.com:80/reach_statement/Adam-Tech-company-23.pdf?src-supplier=Compliance+Statements; ComponentLink3Description: http://sigma.octopart.com:80/reach_statement/Adam-Tech-company-23.pdf?src-supplier=Compliance+Statements; ComponentLink4URL: http://sigma.octopart.com:80/rohs_statement/Adam-Tech-company-22.pdf?src-supplier=Compliance+Statements; ComponentLink4Description: http://sigma.octopart.com:80/rohs_statement/Adam-Tech-company-22.pdf?src-supplier=Compliance+Statements
footprint CON_HDR_MAL_VERT_15P_2P54_PITCH
pins: 1, 2, 3, 4, 5, 6, 7, 8, 9, 10, 11, 12, 13, 14, 15

## PH1-16-UA
designator J?
CONN HEADER VERT 16POS 2.54MM; Manufacturer: Adam Tech; Contact Resistance: 20mΩ; Current Rating: 3A; Insulation Resistance: 5GΩ; Number of Positions: 16; Supplier: DigiKey; Supplier Part Number: 2057-PH1-16-UA-ND; Manufacturer Part Number: PH1-16-UA; RoHS: Compliant; Category: Card Edge Connectors; Stock: 16504; Pricing: 1=0.21, 10=0.177, 100=0.1505, 500=0.13434, 1000=0.12792, 5000=0.11418, 10000=0.10873 (USD); Contact Gender: Male; Contact Material: Brass; Lead Free: Lead Free; Lifecycle Status: Production; Mounting Technology: Through Hole; Pins: 16; Number of Rows: 1; Pitch: 2.54mm; REACH SVHC: Yes; Terminal Pitch: 2.54mm; ComponentLink1URL: https://datasheet.octopart.com:443/PH1-16-UA-Adam-Tech-datasheet-21182886.pdf?src-supplier=IHS; ComponentLink1Description: https://datasheet.octopart.com:443/PH1-16-UA-Adam-Tech-datasheet-21182886.pdf?src-supplier=IHS; ComponentLink2URL: https://datasheet.octopart.com:443/PH1-16-UA-Adam-Tech-datasheet-500427.pdf?src-supplier=Future+Electronics; ComponentLink2Description: https://datasheet.octopart.com:443/PH1-16-UA-Adam-Tech-datasheet-500427.pdf?src-supplier=Future+Electronics; ComponentLink3URL: https://datasheet.octopart.com:443/PH1-16-UA-Adam-Tech-datasheet-189096092.pdf?src-supplier=Master+Electronics; ComponentLink3Description: https://datasheet.octopart.com:443/PH1-16-UA-Adam-Tech-datasheet-189096092.pdf?src-supplier=Master+Electronics; ComponentLink4URL: http://sigma.octopart.com:80/reach_statement/Adam-Tech-company-23.pdf?src-supplier=Compliance+Statements; ComponentLink4Description: http://sigma.octopart.com:80/reach_statement/Adam-Tech-company-23.pdf?src-supplier=Compliance+Statements; ComponentLink5URL: http://sigma.octopart.com:80/rohs_statement/Adam-Tech-company-22.pdf?src-supplier=Compliance+Statements; ComponentLink5Description: http://sigma.octopart.com:80/rohs_statement/Adam-Tech-company-22.pdf?src-supplier=Compliance+Statements
footprint CON_HDR_MAL_VERT_16P_2P54_PITCH
pins: 1, 2, 3, 4, 5, 6, 7, 8, 9, 10, 11, 12, 13, 14, 15, 16

## PH1-17-UA
designator J?
CONN HEADER VERT 17POS 2.54MM; Manufacturer: Adam Tech; Contact Resistance: 20mΩ; Current Rating: 3A; Insulation Resistance: 5GΩ; Supplier: DigiKey; Supplier Part Number: 2057-PH1-17-UA-ND; Manufacturer Part Number: PH1-17-UA; RoHS: Compliant; Category: Card Edge Connectors; Stock: 830; Pricing: 1=0.21, 10=0.182, 100=0.1546, 500=0.13796 (USD); Contact Gender: Male; Contact Material: Brass; Lifecycle Status: Production; Pins: 17; Number of Rows: 1; REACH SVHC: Yes; Schedule B: 8536694040, 8536694040|8536694040|8536694040|8536694040|8536694040; Terminal Pitch: 2.54mm; ComponentLink1URL: https://datasheet.octopart.com:443/PH1-17-UA-Adam-Tech-datasheet-21182886.pdf?src-supplier=IHS; ComponentLink1Description: https://datasheet.octopart.com:443/PH1-17-UA-Adam-Tech-datasheet-21182886.pdf?src-supplier=IHS; ComponentLink2URL: https://datasheet.octopart.com:443/PH1-17-UA-Adam-Tech-datasheet-189096092.pdf?src-supplier=Master+Electronics; ComponentLink2Description: https://datasheet.octopart.com:443/PH1-17-UA-Adam-Tech-datasheet-189096092.pdf?src-supplier=Master+Electronics; ComponentLink3URL: http://sigma.octopart.com:80/reach_statement/Adam-Tech-company-23.pdf?src-supplier=Compliance+Statements; ComponentLink3Description: http://sigma.octopart.com:80/reach_statement/Adam-Tech-company-23.pdf?src-supplier=Compliance+Statements; ComponentLink4URL: http://sigma.octopart.com:80/rohs_statement/Adam-Tech-company-22.pdf?src-supplier=Compliance+Statements; ComponentLink4Description: http://sigma.octopart.com:80/rohs_statement/Adam-Tech-company-22.pdf?src-supplier=Compliance+Statements
footprint CON_HDR_MAL_VERT_17P_2P54_PITCH
pins: 1, 2, 3, 4, 5, 6, 7, 8, 9, 10, 11, 12, 13, 14, 15, 16, 17

## PH1-18-UA
designator J?
CONN HEADER VERT 18POS 2.54MM; Manufacturer: Adam Tech; Contact Resistance: 20mΩ; Current Rating: 3A; Insulation Resistance: 5GΩ; Supplier: DigiKey; Supplier Part Number: 2057-PH1-18-UA-ND; Manufacturer Part Number: PH1-18-UA; RoHS: Compliant; Category: Card Edge Connectors; Stock: 2668; Pricing: 1=0.23, 10=0.194, 100=0.1648, 500=0.14712, 1000=0.14008, 5000=0.12503, 10000=0.11906 (USD); Contact Gender: Male; Contact Material: Brass; Lifecycle Status: Production; Pins: 18; Number of Rows: 1; REACH SVHC: Yes; Schedule B: 8536694040; Terminal Pitch: 2.54mm; ComponentLink1URL: https://datasheet.octopart.com:443/PH1-18-UA-Adam-Tech-datasheet-21182886.pdf?src-supplier=IHS; ComponentLink1Description: https://datasheet.octopart.com:443/PH1-18-UA-Adam-Tech-datasheet-21182886.pdf?src-supplier=IHS; ComponentLink2URL: https://datasheet.octopart.com:443/PH1-18-UA-Adam-Tech-datasheet-189096092.pdf?src-supplier=Master+Electronics; ComponentLink2Description: https://datasheet.octopart.com:443/PH1-18-UA-Adam-Tech-datasheet-189096092.pdf?src-supplier=Master+Electronics; ComponentLink3URL: http://sigma.octopart.com:80/reach_statement/Adam-Tech-company-23.pdf?src-supplier=Compliance+Statements; ComponentLink3Description: http://sigma.octopart.com:80/reach_statement/Adam-Tech-company-23.pdf?src-supplier=Compliance+Statements; ComponentLink4URL: http://sigma.octopart.com:80/rohs_statement/Adam-Tech-company-22.pdf?src-supplier=Compliance+Statements; ComponentLink4Description: http://sigma.octopart.com:80/rohs_statement/Adam-Tech-company-22.pdf?src-supplier=Compliance+Statements
footprint CON_HDR_MAL_VERT_18P_2P54_PITCH
pins: 1, 2, 3, 4, 5, 6, 7, 8, 9, 10, 11, 12, 13, 14, 15, 16, 17, 18

## PH1-19-UA
designator J?
CONN HEADER VERT 19POS 2.54MM; Manufacturer: Adam Tech; Contact Resistance: 20mΩ; Current Rating: 3A; Insulation Resistance: 5GΩ; Supplier: DigiKey; Supplier Part Number: 2057-PH1-19-UA-ND; Manufacturer Part Number: PH1-19-UA; RoHS: Compliant; Category: Card Edge Connectors; Stock: 619; Pricing: 1=0.24, 10=0.206, 100=0.1747, 500=0.15586, 1000=0.14841, 5000=0.13247, 10000=0.12614 (USD); Contact Gender: Male; Contact Material: Brass; Lifecycle Status: Production; Pins: 19; Number of Rows: 1; REACH SVHC: Yes; Terminal Pitch: 2.54mm; ComponentLink1URL: https://datasheet.octopart.com:443/PH1-19-UA-Adam-Tech-datasheet-21182886.pdf?src-supplier=IHS; ComponentLink1Description: https://datasheet.octopart.com:443/PH1-19-UA-Adam-Tech-datasheet-21182886.pdf?src-supplier=IHS; ComponentLink2URL: https://datasheet.octopart.com:443/PH1-19-UA-Adam-Tech-datasheet-189096092.pdf?src-supplier=Master+Electronics; ComponentLink2Description: https://datasheet.octopart.com:443/PH1-19-UA-Adam-Tech-datasheet-189096092.pdf?src-supplier=Master+Electronics; ComponentLink3URL: http://sigma.octopart.com:80/reach_statement/Adam-Tech-company-23.pdf?src-supplier=Compliance+Statements; ComponentLink3Description: http://sigma.octopart.com:80/reach_statement/Adam-Tech-company-23.pdf?src-supplier=Compliance+Statements; ComponentLink4URL: http://sigma.octopart.com:80/rohs_statement/Adam-Tech-company-22.pdf?src-supplier=Compliance+Statements; ComponentLink4Description: http://sigma.octopart.com:80/rohs_statement/Adam-Tech-company-22.pdf?src-supplier=Compliance+Statements
footprint CON_HDR_MAL_VERT_19P_2P54_PITCH
pins: 1, 2, 3, 4, 5, 6, 7, 8, 9, 10, 11, 12, 13, 14, 15, 16, 17, 18, 19

## PH1-20-UA
designator J?
CONN HEADER VERT 20POS 2.54MM; Manufacturer: Adam Tech; Contact Resistance: 20mΩ; Current Rating: 3A; Insulation Resistance: 5GΩ; Number of Positions: 20; Supplier: DigiKey; Supplier Part Number: 2057-PH1-20-UA-ND; Manufacturer Part Number: PH1-20-UA; RoHS: Compliant; Category: Card Edge Connectors; Stock: 9766; Pricing: 1=0.35, 10=0.301, 100=0.2559, 500=0.22838, 1000=0.21746, 5000=0.19411, 10000=0.18484 (USD); Contact Gender: Male; Contact Material: Brass; Lead Free: Lead Free; Lifecycle Status: Production; Pins: 20; Number of Rows: 1; Pitch: 2.54mm; REACH SVHC: Yes; Terminal Pitch: 2.54mm; Termination: PCB; ComponentLink1URL: https://datasheet.octopart.com:443/PH1-20-UA-Adam-Tech-datasheet-21182886.pdf?src-supplier=IHS; ComponentLink1Description: https://datasheet.octopart.com:443/PH1-20-UA-Adam-Tech-datasheet-21182886.pdf?src-supplier=IHS; ComponentLink2URL: https://datasheet.octopart.com:443/PH1-20-UA-Adam-Tech-datasheet-12510360.pdf?src-supplier=Future+Electronics; ComponentLink2Description: https://datasheet.octopart.com:443/PH1-20-UA-Adam-Tech-datasheet-12510360.pdf?src-supplier=Future+Electronics; ComponentLink3URL: https://datasheet.octopart.com:443/PH1-20-UA-Adam-Tech-datasheet-502038.pdf?src-supplier=Future+Electronics; ComponentLink3Description: https://datasheet.octopart.com:443/PH1-20-UA-Adam-Tech-datasheet-502038.pdf?src-supplier=Future+Electronics; ComponentLink4URL: https://datasheet.octopart.com:443/PH1-20-UA-Adam-Tech-datasheet-189096092.pdf?src-supplier=Master+Electronics; ComponentLink4Description: https://datasheet.octopart.com:443/PH1-20-UA-Adam-Tech-datasheet-189096092.pdf?src-supplier=Master+Electronics; ComponentLink5URL: http://sigma.octopart.com:80/reach_statement/Adam-Tech-company-23.pdf?src-supplier=Compliance+Statements; ComponentLink5Description: http://sigma.octopart.com:80/reach_statement/Adam-Tech-company-23.pdf?src-supplier=Compliance+Statements; ComponentLink6URL: http://sigma.octopart.com:80/rohs_statement/Adam-Tech-company-22.pdf?src-supplier=Compliance+Statements; ComponentLink6Description: http://sigma.octopart.com:80/rohs_statement/Adam-Tech-company-22.pdf?src-supplier=Compliance+Statements
footprint CON_HDR_MAL_VERT_20P_2P54_PITCH
pins: 1, 2, 3, 4, 5, 6, 7, 8, 9, 10, 11, 12, 13, 14, 15, 16, 17, 18, 19, 20

## PH1-22-UA
designator J?
CONN HEADER VERT 22POS 2.54MM; Manufacturer: Adam Tech; Supplier: Digikey; Supplier Part Number: 2057-PH1-22-UA-ND; Manufacturer Part Number: PH1-22-UA
footprint CON_HDR_MAL_VERT_22P_2P54_PITCH
pins: 1, 2, 3, 4, 5, 6, 7, 8, 9, 10, 11, 12, 13, 14, 15, 16, 17, 18, 19, 20, 21, 22

## PPPC021LFBN-RC
designator J?
CONN HDR 2POS 0.1 GOLD PCB; Manufacturer: Sullins; Connector Type: Header, Socket; Current Rating: 3A; Dielectric Material: Polyester; Number of Contacts: 2; Pitch: 2.54mm; Voltage Rating: 250V; Supplier: DigiKey; Supplier Part Number: S7035-ND; Manufacturer Part Number: PPPC021LFBN-RC; RoHS: Compliant; Category: Card Edge Connectors; Stock: 33065; Pricing: 1=0.24, 10=0.206, 100=0.1751, 500=0.15622, 1000=0.14876, 5000=0.13278, 10000=0.12644 (USD); Color: Black; Contact Gender: Female; Contact Material: Gold, Nickel; Contact Plating: Gold; Height: 8.7mm; Housing Material: Plastic; Lead Free: Lead Free; Length: 5.58mm; Lifecycle Status: Production; Max Operating Temperature: 105°C; Min Operating Temperature: -40°C; Mounting Technology: Through Hole; Pins: 2; Number of Positions: 2; Number of Rows: 1; Packaging: Bulk; REACH SVHC: Yes; Terminal Pitch: 2.54mm; Termination: Solder; Width: 2.5mm; ComponentLink1URL: https://datasheet.octopart.com:443/PPPC021LFBN-RC-Sullins-datasheet-138810743.pdf?src-supplier=IHS; ComponentLink1Description: https://datasheet.octopart.com:443/PPPC021LFBN-RC-Sullins-datasheet-138810743.pdf?src-supplier=IHS; ComponentLink2URL: https://datasheet.octopart.com:443/PPPC021LFBN-RC-Sullins-datasheet-83216130.pdf?src-supplier=Upverter; ComponentLink2Description: https://datasheet.octopart.com:443/PPPC021LFBN-RC-Sullins-datasheet-83216130.pdf?src-supplier=Upverter; ComponentLink3URL: https://datasheet.octopart.com:443/PPPC021LFBN-RC-Sullins-datasheet-41308905.pdf?src-supplier=Future+Electronics; ComponentLink3Description: https://datasheet.octopart.com:443/PPPC021LFBN-RC-Sullins-datasheet-41308905.pdf?src-supplier=Future+Electronics; ComponentLink4URL: https://datasheet.octopart.com:443/PPPC021LFBN-RC-Sullins-datasheet-12511165.pdf?src-supplier=Future+Electronics; ComponentLink4Description: https://datasheet.octopart.com:443/PPPC021LFBN-RC-Sullins-datasheet-12511165.pdf?src-supplier=Future+Electronics
footprint CON_HDR_FEM_VERT_2P_2P54_PITCH
pins: 1, 2